# EAGLE library part OPA2376 (library spectrometer)
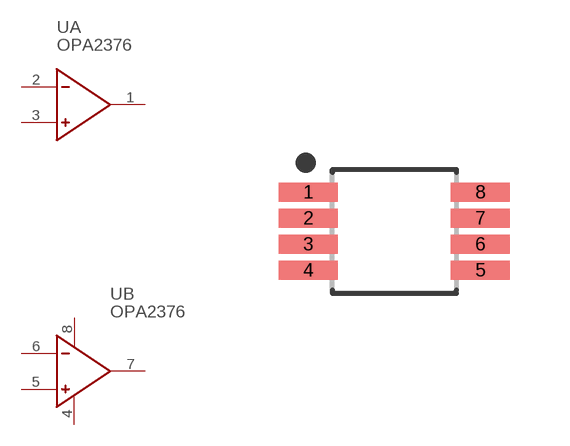
[diagram p2: symbol with the pads of SOP65P490X110-8; footprint SOP65P490X110-8]

Designator prefix U; gates A=OPAMP B=OPAMP_POWER

## OPA2376PDSO-8  [SOP65P490X110-8]
1  A:OUT1
2  A:IN1
3  A:IN2
4  B:GND
5  B:IN2
6  B:IN1
7  B:OUT1
8  B:VDD

## Footprint SOP65P490X110-8 (pad centres in mm)
8-SOP, 0.65 mm pitch, 4.90 mm span, 3.00 X 3.00 X 1.10 mm body 8-pin SOP package with 0.65 mm pitch, 4.90 mm span with body size 3.00 X 3.00 X 1.10 mm
smd 1.471 x 0.481: 1 -2.15,0.975; 2 -2.15,0.325; 3 -2.15,-0.325; 4 -2.15,-0.975; 5 2.15,-0.975; 6 2.15,-0.325; 7 2.15,0.325; 8 2.15,0.975